# Altium integrated library 182-015-113R181.IntLib: 2 symbols
Pins are listed as number, name and electrical type; pins without a type are passive.

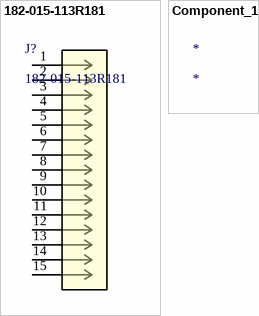
[diagram p0: symbols 182-015-113R181 to Component_1]

## 182-015-113R181
designator J?
No Description Available; Mfr_Name: Norcomp Inc.; Copyright: Copyright (C) 2023 Ultra Librarian. All rights reserved.; Manufacturer_Part_Number: 182-015-113R181; RefDes: RefDes; Type: DEV
footprint CONN_182-015-113R181_NRC
pins: 1, 2, 3, 4, 5, 6, 7, 8, 9, 10, 11, 12, 13, 14, 15

## Component_1
designator *